# Altium footprint library SOIC_TSSOP_Footprints.PcbLib: 4 footprints
Each footprint in its own frame and in the unit in brackets; x right, y up, seen from the top. Pads: shape width x height; smd on the part's side, far side on the other; paste and mask are expansions set on the pad; w line width, h text height; cw(c..) or ccw(c..) is an arc to the next point about the centre after c.
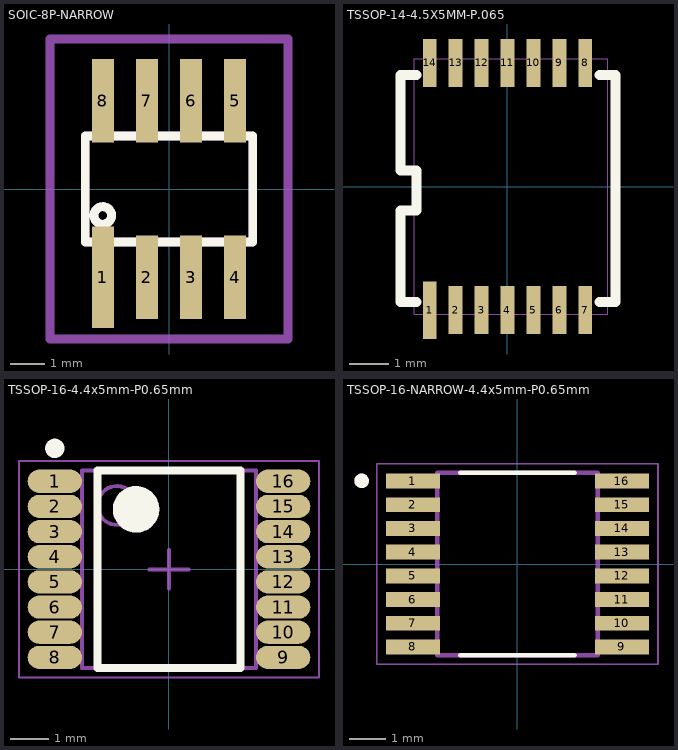
[diagram p0: the footprints below, top view; thin cyan lines are the x and y axes]

## SOIC-8P-NARROW [mil] "SOIC8, Narrow"
pads (8):
  rect 25x115 smd: 1(-75,-100)
  rect 25x95 smd: 2(-25,-100) 3(25,-100) 4(75,-100) 5(75,100) 6(25,100) 7(-25,100) 8(-75,100)
Top Overlay:
  circle w10: c-75,-30 r10
  lines w10: -95,-60 95,-60 95,60 -95,60 -95,-60
Top Assembly:
  circle w10: c-75,-30 r10
  lines w10: -95,-60 95,-60 95,60 -95,60 -95,-60
Mechanical 16:
  lines w10: -135,-170 135,-170 135,170 -135,170 -135,-170
3D body "SOIC-8_3.9x4.9mm_P1.27mm.step": height 68.9, standoff 0, extent -96.46,-118.11 96.46,118.11

## TSSOP-14-4.5X5MM-P.065 [mm]
pads (14):
  rect 0.35x1.448 smd: 1(-1.95,-3.1)
  rect 0.35x1.2 smd: 2(-1.3,-3.1) 3(-0.65,-3.1) 4(0,-3.1) 5(0.65,-3.1) 6(1.3,-3.1) 7(1.95,-3.1) 8(1.95,3.1) 9(1.3,3.1) 10(0.65,3.1) 11(0,3.1) 12(-0.65,3.1) 13(-1.3,3.1) 14(-1.95,3.1)
Top Overlay:
  lines w0.254: -2.285,-2.9 -2.685,-2.9 -2.685,-0.6 -2.285,-0.6 -2.285,0.4 -2.685,0.4 -2.685,2.8 -2.285,2.8 ; 2.31,-2.9 2.71,-2.9 2.71,2.8 2.31,2.8
Top Assembly:
  lines w0.025: -2.335,-3.2 2.515,-3.2 2.515,3.2 -2.335,3.2 -2.335,-3.2
3D body "TSSOP-14_4.4x5mm_P0.65mm.step": height 1, standoff 0, extent -2.5,-3.2 2.5,3.2

## TSSOP-16-4.4x5mm-P0.65mm [mm] "TSOP, 16-Leads, Body 5.00x4.40mm, Pitch 0.65mm, IPC Medium Density"
height 1.1
pads (16):
  oval 1.4x0.6 smd: 1(-2.95,2.275) 2(-2.95,1.625) 3(-2.95,0.975) 4(-2.95,0.325) 5(-2.95,-0.325) 6(-2.95,-0.975) 7(-2.95,-1.625) 8(-2.95,-2.275) 9(2.95,-2.275) 10(2.95,-1.625) 11(2.95,-0.975) 12(2.95,-0.325) 13(2.95,0.325) 14(2.95,0.975) 15(2.95,1.625) 16(2.95,2.275)
Top Overlay:
  circle w0.6: c-0.85,1.55 r0.3
  circle w0.25: c-2.95,3.125 r0.125
  lines w0.2: -1.85,-2.55 1.85,-2.55 1.85,2.55 -1.85,2.55 -1.85,-2.55
Top Assembly:
  circle w0.1: c-1.35,1.65 r0.5
  lines w0.1: -2.25,-2.55 2.25,-2.55 2.25,2.55 -2.25,2.55 -2.25,-2.55
Mechanical 15:
  lines w0.05: -3.875,-2.8 3.875,-2.8 3.875,2.8 -3.875,2.8 -3.875,-2.8
  lines w0.1: -0.5,0 0.5,0 ; 0,-0.5 0,0.5
3D body "TSOP65P640X110-16N.step": height 1.1, standoff 0, extent -3.225,-2.55 3.225,2.55

## TSSOP-16-NARROW-4.4x5mm-P0.65mm [mm]
height 1.1
pads (16):
  rect 1.48x0.41 smd: 1(-2.865,2.275) 2(-2.865,1.625) 3(-2.865,0.975) 4(-2.865,0.325) 5(-2.865,-0.325) 6(-2.865,-0.975) 7(-2.865,-1.625) 8(-2.865,-2.275) 9(2.865,-2.275) 10(2.865,-1.625) 11(2.865,-0.975) 12(2.865,-0.325) 13(2.865,0.325) 14(2.865,0.975) 15(2.865,1.625) 16(2.865,2.275)
Top Overlay:
  circle w0.2: c-4.27,2.28 r0.1
  lines w0.127: -1.565,-2.5 1.565,-2.5 ; -1.565,2.5 1.565,2.5
Mechanical 13:
  circle w0.2: c-4.27,2.28 r0.1
  lines w0.127: -2.2,-2.5 2.2,-2.5 2.2,2.5 -2.2,2.5 -2.2,-2.5
Mechanical 15:
  lines w0.05: -3.855,-2.75 3.855,-2.75 3.855,2.75 -3.855,2.75 -3.855,-2.75
3D body "step_temp.STEP": height 1.1, standoff 0, extent -3.2,-2.5 3.2,2.5